# EAGLE library part 5747847-4 (library 000_VansAircraft)
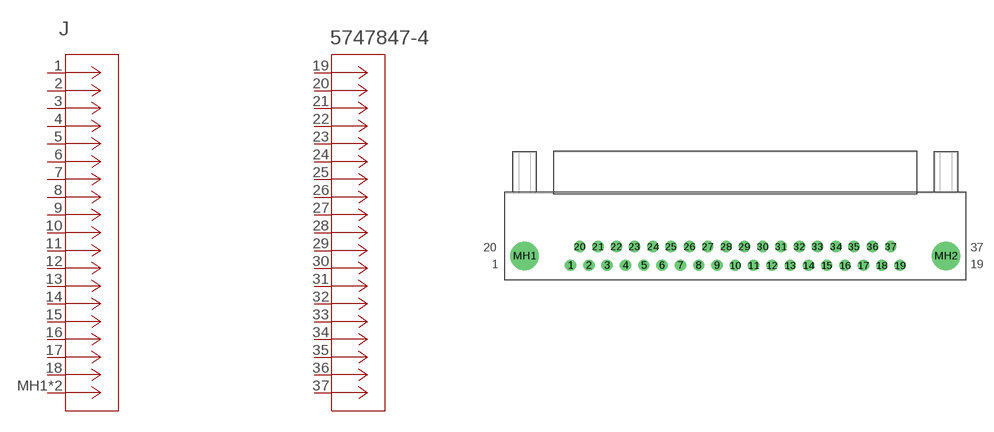
[diagram p9: symbol with the pads of CONN_5747847-4_TYC; footprint CONN_5747847-4_TYC]

Designator prefix J

## 5747847-4 (COPYRIGHT: Copyright (C) 2025 Ultra Librarian. All rights reserved.; DATASHEET: https://www.te.com/commerce/DocumentDelivery/DDEController?Action=srchrtrv&DocNm=108-40025&DocType=Specification+Or+Standard&DocLang=English&PartCntxt=647891-4&DocFormat=pdf; DESCRIPTION: 37 MSFL RCPT RA 318 (IN,FM,BL); MANUFACTURER_NAME: TE Connectivity; MANUFACTURER_PART_NUMBER: 5747847-4)  [CONN_5747847-4_TYC]
1  1  pas
2  2  pas
3  3  pas
4  4  pas
5  5  pas
6  6  pas
7  7  pas
8  8  pas
9  9  pas
10  10  pas
11  11  pas
12  12  pas
13  13  pas
14  14  pas
15  15  pas
16  16  pas
17  17  pas
18  18  pas
19  19  pas
20  20  pas
21  21  pas
22  22  pas
23  23  pas
24  24  pas
25  25  pas
26  26  pas
27  27  pas
28  28  pas
29  29  pas
30  30  pas
31  31  pas
32  32  pas
33  33  pas
34  34  pas
35  35  pas
36  36  pas
37  37  pas
MH1  MH  pas
MH2  MH  pas

## Footprint CONN_5747847-4_TYC (pad centres in mm)
drill 1.143 pad 1.651: 1 -24.917,-10.922; 2 -22.149,-10.922; 3 -19.38,-10.922; 4 -16.612,-10.922; 5 -13.843,-10.922; 6 -11.074,-10.922; 7 -8.306,-10.922; 8 -5.537,-10.922; 9 -2.769,-10.922; 10 0,-10.922; 11 2.769,-10.922; 12 5.537,-10.922; 13 8.306,-10.922; 14 11.074,-10.922; 15 13.843,-10.922; 16 16.612,-10.922; 17 19.38,-10.922; 18 22.149,-10.922; 19 24.917,-10.922; 20 -23.52,-8.077; 21 -20.777,-8.077; 22 -17.983,-8.077; 23 -15.24,-8.077; 24 -12.446,-8.077; 25 -9.703,-8.077; 26 -6.909,-8.077; 27 -4.166,-8.077; 28 -1.372,-8.077; 29 1.372,-8.077; 30 4.166,-8.077; 31 6.909,-8.077; 32 9.703,-8.077; 33 12.446,-8.077; 34 15.24,-8.077; 35 17.983,-8.077; 36 20.777,-8.077; 37 23.52,-8.077
drill 3.302 pad 3.302: MH1 -31.877,-9.5; MH2 31.877,-9.5